# Altium schematic symbol library ENC28J60CSS.SchLib: 1 symbol
Pins are listed as number, name and electrical type; pins without a type are passive.

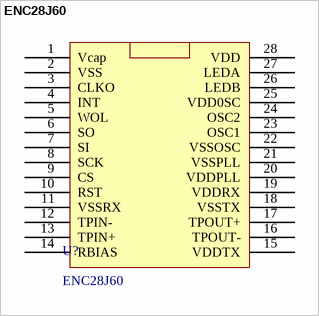
[diagram p0: symbol ENC28J60]

## ENC28J60
designator U?
footprint SOP_28M_127 (SOP, 28-Leads, Body 18.1x8.6mm, Pitch 1.27mm, IPC Low Density)
pins: 1 Vcap, 2 VSS, 3 CLKO, 4 INT, 5 WOL, 6 SO, 7 SI, 8 SCK, 9 CS, 10 RST, 11 VSSRX, 12 TPIN-, 13 TPIN+, 14 RBIAS, 15 VDDTX, 16 TPOUT-, 17 TPOUT+, 18 VSSTX, 19 VDDRX, 20 VDDPLL, 21 VSSPLL, 22 VSSOSC, 23 OSC1, 24 OSC2, 25 VDD0SC, 26 LEDB, 27 LEDA, 28 VDD